# Altium footprint library SnapEDApcb.PcbLib: 1 footprints
Each footprint in its own frame and in the unit in brackets; x right, y up, seen from the top. Pads: shape width x height; smd on the part's side, far side on the other; paste and mask are expansions set on the pad; w line width, h text height; cw(c..) or ccw(c..) is an arc to the next point about the centre after c.
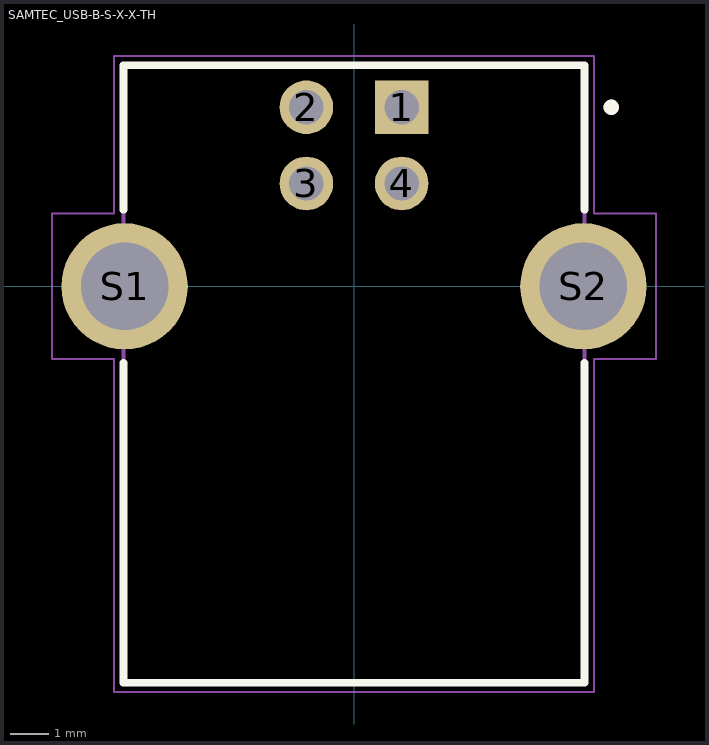
[diagram p0: the footprint, top view; thin cyan lines are the x and y axes]

## SAMTEC_USB-B-S-X-X-TH [mm]
pads (6):
  rect 1.408x1.408 hole 0.9: 1(1.25,4.7)
  round 1.408 hole 0.9: 2(-1.25,4.7) 3(-1.25,2.7) 4(1.25,2.7)
  round 3.316 hole 2.3: S1(-6.02,0) S2(6.02,0)
Top Overlay:
  circle w0.2: c6.75,4.7 r0.1
  lines w0.2: -6.05,-2.01 -6.05,-10.4 6.05,-10.4 6.05,-2.01 ; -6.05,2.01 -6.05,5.8 6.05,5.8 6.05,2.01
Mechanical 13:
  circle w0.2: c6.75,4.7 r0.1
  lines w0.1: -6.05,-10.4 6.05,-10.4 6.05,5.8 -6.05,5.8 -6.05,-10.4
Mechanical 15:
  lines w0.05: -7.93,-1.91 -6.3,-1.91 -6.3,-10.65 6.3,-10.65 6.3,-1.91 7.93,-1.91 7.93,1.91 6.3,1.91 6.3,6.05 -6.3,6.05 -6.3,1.91 -7.93,1.91 -7.93,-1.91
3D body "USB-B-S-S-B-TH-TR.stp": height 10.7, standoff -3.74, extent -7.25,-10.513 7.25,5.987